# Altium footprint library Connector_Phoenix_MC.PcbLib: 180 footprints (part 9 of 12)
Each footprint in its own frame and in the unit in brackets; x right, y up, seen from the top. Pads: shape width x height; smd on the part's side, far side on the other; paste and mask are expansions set on the pad; w line width, h text height; cw(c..) or ccw(c..) is an arc to the next point about the centre after c.
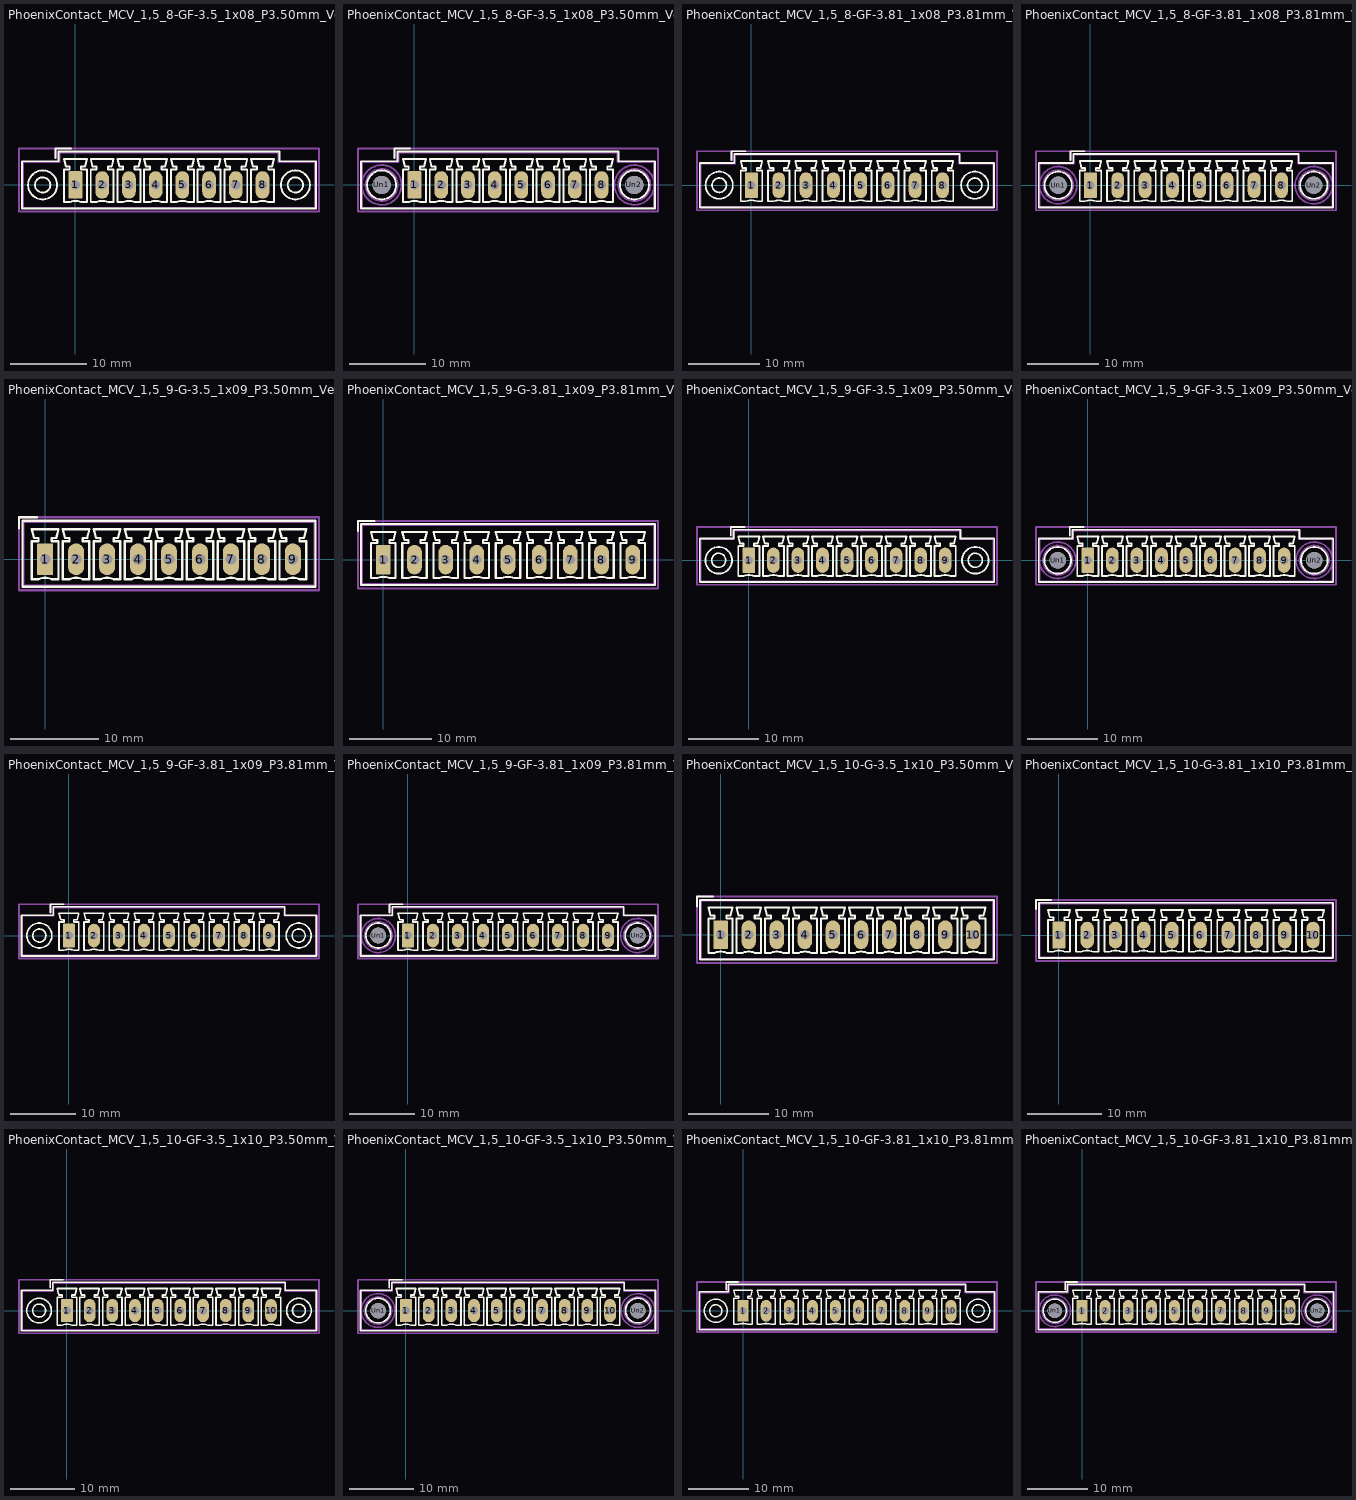
[diagram p8: the footprints below, top view; thin cyan lines are the x and y axes]

## PhoenixContact_MCV_1,5_8-GF-3.5_1x08_P3.50mm_Vertical_ThreadedFlange [mm]
pads (8):
  rrect14% 1.8x3.6 hole 1.2: 1(0,0)
  rrect100% 1.8x3.6 hole 1.2: 2(3.5,0) 3(7,0) 4(10.5,0) 5(14,0) 6(17.5,0) 7(21,0) 8(24.5,0)
F.SilkS:
  circle w0.254: c28.8,0 r1.9
  circle w0.254: c28.8,0 r1
  circle w0.254: c-4.3,0 r1.9
  circle w0.254: c-4.3,0 r1
  lines w0.254: -2.6,3.5 -2.6,4.75 -0.6,4.75 ; 0.75,-2.25 ccw(c0,-3.95) -0.75,-2.25 -1.5,-2.25 -1.5,2.05 -0.75,2.05 -0.75,2.4 -1.25,2.4 -1.5,3.4 1.5,3.4 1.25,2.4 0.75,2.4 0.75,2.05 1.5,2.05 1.5,-2.25 0.75,-2.25 ; -7.01,-3.11 31.51,-3.11 31.51,3.11 26.71,3.11 26.71,4.36 -2.21,4.36 -2.21,3.11 -7.01,3.11 -7.01,-3.11 ; 2,-2.25 2.75,-2.25 cw(c3.5,-3.95) 4.25,-2.25 5,-2.25 5,2.05 4.25,2.05 4.25,2.4 4.75,2.4 5,3.4 2,3.4 2.25,2.4 2.75,2.4 2.75,2.05 2,2.05 2,-2.25 ; 5.5,-2.25 6.25,-2.25 cw(c7,-3.95) 7.75,-2.25 8.5,-2.25 8.5,2.05 7.75,2.05 7.75,2.4 8.25,2.4 8.5,3.4 5.5,3.4 5.75,2.4 6.25,2.4 6.25,2.05 5.5,2.05 5.5,-2.25 ; 9,-2.25 9.75,-2.25 cw(c10.5,-3.95) 11.25,-2.25 12,-2.25 12,2.05 11.25,2.05 11.25,2.4 11.75,2.4 12,3.4 9,3.4 9.25,2.4 9.75,2.4 9.75,2.05 9,2.05 9,-2.25 ; 12.5,-2.25 13.25,-2.25 cw(c14,-3.95) 14.75,-2.25 15.5,-2.25 15.5,2.05 14.75,2.05 14.75,2.4 15.25,2.4 15.5,3.4 12.5,3.4 12.75,2.4 13.25,2.4 13.25,2.05 12.5,2.05 12.5,-2.25 ; 16,-2.25 16.75,-2.25 cw(c17.5,-3.95) 18.25,-2.25 19,-2.25 19,2.05 18.25,2.05 18.25,2.4 18.75,2.4 19,3.4 16,3.4 16.25,2.4 16.75,2.4 16.75,2.05 16,2.05 16,-2.25 ; 19.5,-2.25 20.25,-2.25 cw(c21,-3.95) 21.75,-2.25 22.5,-2.25 22.5,2.05 21.75,2.05 21.75,2.4 22.25,2.4 22.5,3.4 19.5,3.4 19.75,2.4 20.25,2.4 20.25,2.05 19.5,2.05 19.5,-2.25 ; 23,-2.25 23.75,-2.25 cw(c24.5,-3.95) 25.25,-2.25 26,-2.25 26,2.05 25.25,2.05 25.25,2.4 25.75,2.4 26,3.4 23,3.4 23.25,2.4 23.75,2.4 23.75,2.05 23,2.05 23,-2.25
Top Assembly:
  lines w0.254: -2.6,3.5 -2.6,4.75 -0.6,4.75 ; -6.9,-3 31.4,-3 31.4,3 26.6,3 26.6,4.25 -2.1,4.25 -2.1,3 -6.9,3 -6.9,-3
  text "'.Designator'" at 8.203,2.71 h1
Top Courtyard:
  lines w0.254: -7.4,-3.5 31.9,-3.5 31.9,4.75 -7.4,4.75 -7.4,-3.5
Top Designator:
  text ".Designator" at 4.632,0.117 h1.52

## PhoenixContact_MCV_1,5_8-GF-3.5_1x08_P3.50mm_Vertical_ThreadedFlange_MountHole [mm]
pads (10):
  rrect14% 1.8x3.6 hole 1.2: 1(0,0)
  rrect100% 1.8x3.6 hole 1.2: 2(3.5,0) 3(7,0) 4(10.5,0) 5(14,0) 6(17.5,0) 7(21,0) 8(24.5,0)
  round 2.4 hole 2.4: Un1(-4.3,0) Un2(28.8,0)
F.SilkS:
  circle w0.254: c28.8,0 r1.9
  circle w0.254: c-4.3,0 r1.9
  lines w0.254: -2.6,3.5 -2.6,4.75 -0.6,4.75 ; 0.75,-2.25 ccw(c0,-3.95) -0.75,-2.25 -1.5,-2.25 -1.5,2.05 -0.75,2.05 -0.75,2.4 -1.25,2.4 -1.5,3.4 1.5,3.4 1.25,2.4 0.75,2.4 0.75,2.05 1.5,2.05 1.5,-2.25 0.75,-2.25 ; -7.01,-3.11 31.51,-3.11 31.51,3.11 26.71,3.11 26.71,4.36 -2.21,4.36 -2.21,3.11 -7.01,3.11 -7.01,-3.11 ; 2,-2.25 2.75,-2.25 cw(c3.5,-3.95) 4.25,-2.25 5,-2.25 5,2.05 4.25,2.05 4.25,2.4 4.75,2.4 5,3.4 2,3.4 2.25,2.4 2.75,2.4 2.75,2.05 2,2.05 2,-2.25 ; 5.5,-2.25 6.25,-2.25 cw(c7,-3.95) 7.75,-2.25 8.5,-2.25 8.5,2.05 7.75,2.05 7.75,2.4 8.25,2.4 8.5,3.4 5.5,3.4 5.75,2.4 6.25,2.4 6.25,2.05 5.5,2.05 5.5,-2.25 ; 9,-2.25 9.75,-2.25 cw(c10.5,-3.95) 11.25,-2.25 12,-2.25 12,2.05 11.25,2.05 11.25,2.4 11.75,2.4 12,3.4 9,3.4 9.25,2.4 9.75,2.4 9.75,2.05 9,2.05 9,-2.25 ; 12.5,-2.25 13.25,-2.25 cw(c14,-3.95) 14.75,-2.25 15.5,-2.25 15.5,2.05 14.75,2.05 14.75,2.4 15.25,2.4 15.5,3.4 12.5,3.4 12.75,2.4 13.25,2.4 13.25,2.05 12.5,2.05 12.5,-2.25 ; 16,-2.25 16.75,-2.25 cw(c17.5,-3.95) 18.25,-2.25 19,-2.25 19,2.05 18.25,2.05 18.25,2.4 18.75,2.4 19,3.4 16,3.4 16.25,2.4 16.75,2.4 16.75,2.05 16,2.05 16,-2.25 ; 19.5,-2.25 20.25,-2.25 cw(c21,-3.95) 21.75,-2.25 22.5,-2.25 22.5,2.05 21.75,2.05 21.75,2.4 22.25,2.4 22.5,3.4 19.5,3.4 19.75,2.4 20.25,2.4 20.25,2.05 19.5,2.05 19.5,-2.25 ; 23,-2.25 23.75,-2.25 cw(c24.5,-3.95) 25.25,-2.25 26,-2.25 26,2.05 25.25,2.05 25.25,2.4 25.75,2.4 26,3.4 23,3.4 23.25,2.4 23.75,2.4 23.75,2.05 23,2.05 23,-2.25
B.SilkS:
  circle w0.254: c28.8,0 r2.21
  circle w0.254: c-4.3,0 r2.21
Top Assembly:
  lines w0.254: -2.6,3.5 -2.6,4.75 -0.6,4.75 ; -6.9,-3 31.4,-3 31.4,3 26.6,3 26.6,4.25 -2.1,4.25 -2.1,3 -6.9,3 -6.9,-3
  text "'.Designator'" at 8.203,2.71 h1
Bottom Assembly:
  circle w0.254: c28.8,0 r2.1
  circle w0.254: c-4.3,0 r2.1
Top Courtyard:
  lines w0.254: -7.4,-3.5 31.9,-3.5 31.9,4.75 -7.4,4.75 -7.4,-3.5
Bottom Courtyard:
  circle w0.254: c28.8,0 r2.6
  circle w0.254: c-4.3,0 r2.6
Top Designator:
  text ".Designator" at 4.632,0.117 h1.52

## PhoenixContact_MCV_1,5_8-GF-3.81_1x08_P3.81mm_Vertical_ThreadedFlange [mm]
pads (8):
  rrect14% 1.8x3.6 hole 1.2: 1(0,0)
  rrect100% 1.8x3.6 hole 1.2: 2(3.81,0) 3(7.62,0) 4(11.43,0) 5(15.24,0) 6(19.05,0) 7(22.86,0) 8(26.67,0)
F.SilkS:
  circle w0.254: c31.17,0 r1.9
  circle w0.254: c31.17,0 r1
  circle w0.254: c-4.5,0 r1.9
  circle w0.254: c-4.5,0 r1
  lines w0.254: -2.8,3.5 -2.8,4.75 -0.8,4.75 ; 0.75,-2.25 ccw(c0,-3.95) -0.75,-2.25 -1.5,-2.25 -1.5,2.05 -0.75,2.05 -0.75,2.4 -1.25,2.4 -1.5,3.4 1.5,3.4 1.25,2.4 0.75,2.4 0.75,2.05 1.5,2.05 1.5,-2.25 0.75,-2.25 ; 4.56,-2.25 ccw(c3.81,-3.95) 3.06,-2.25 2.31,-2.25 2.31,2.05 3.06,2.05 3.06,2.4 2.56,2.4 2.31,3.4 5.31,3.4 5.06,2.4 4.56,2.4 4.56,2.05 5.31,2.05 5.31,-2.25 4.56,-2.25 ; 8.37,-2.25 ccw(c7.62,-3.95) 6.87,-2.25 6.12,-2.25 6.12,2.05 6.87,2.05 6.87,2.4 6.37,2.4 6.12,3.4 9.12,3.4 8.87,2.4 8.37,2.4 8.37,2.05 9.12,2.05 9.12,-2.25 8.37,-2.25 ; 12.18,-2.25 ccw(c11.43,-3.95) 10.68,-2.25 9.93,-2.25 9.93,2.05 10.68,2.05 10.68,2.4 10.18,2.4 9.93,3.4 12.93,3.4 12.68,2.4 12.18,2.4 12.18,2.05 12.93,2.05 12.93,-2.25 12.18,-2.25 ; 15.99,-2.25 ccw(c15.24,-3.95) 14.49,-2.25 13.74,-2.25 13.74,2.05 14.49,2.05 14.49,2.4 13.99,2.4 13.74,3.4 16.74,3.4 16.49,2.4 15.99,2.4 15.99,2.05 16.74,2.05 16.74,-2.25 15.99,-2.25 ; 19.8,-2.25 ccw(c19.05,-3.95) 18.3,-2.25 17.55,-2.25 17.55,2.05 18.3,2.05 18.3,2.4 17.8,2.4 17.55,3.4 20.55,3.4 20.3,2.4 19.8,2.4 19.8,2.05 20.55,2.05 20.55,-2.25 19.8,-2.25 ; 23.61,-2.25 ccw(c22.86,-3.95) 22.11,-2.25 21.36,-2.25 21.36,2.05 22.11,2.05 22.11,2.4 21.61,2.4 21.36,3.4 24.36,3.4 24.11,2.4 23.61,2.4 23.61,2.05 24.36,2.05 24.36,-2.25 23.61,-2.25 ; 27.42,-2.25 ccw(c26.67,-3.95) 25.92,-2.25 25.17,-2.25 25.17,2.05 25.92,2.05 25.92,2.4 25.42,2.4 25.17,3.4 28.17,3.4 27.92,2.4 27.42,2.4 27.42,2.05 28.17,2.05 28.17,-2.25 27.42,-2.25 ; -7.21,-3.11 33.88,-3.11 33.88,3.11 29.08,3.11 29.08,4.36 -2.41,4.36 -2.41,3.11 -7.21,3.11 -7.21,-3.11
Top Assembly:
  lines w0.254: -2.8,3.5 -2.8,4.75 -0.8,4.75 ; -7.1,-3 33.77,-3 33.77,3 28.97,3 28.97,4.25 -2.3,4.25 -2.3,3 -7.1,3 -7.1,-3
  text "'.Designator'" at 9.293,2.71 h1
Top Courtyard:
  lines w0.254: -7.6,-3.5 34.28,-3.5 34.28,4.75 -7.6,4.75 -7.6,-3.5
Top Designator:
  text ".Designator" at 5.722,0.117 h1.52

## PhoenixContact_MCV_1,5_8-GF-3.81_1x08_P3.81mm_Vertical_ThreadedFlange_MountHole [mm]
pads (10):
  rrect14% 1.8x3.6 hole 1.2: 1(0,0)
  rrect100% 1.8x3.6 hole 1.2: 2(3.81,0) 3(7.62,0) 4(11.43,0) 5(15.24,0) 6(19.05,0) 7(22.86,0) 8(26.67,0)
  round 2.4 hole 2.4: Un1(-4.5,0) Un2(31.17,0)
F.SilkS:
  circle w0.254: c31.17,0 r1.9
  circle w0.254: c-4.5,0 r1.9
  lines w0.254: -2.8,3.5 -2.8,4.75 -0.8,4.75 ; 0.75,-2.25 ccw(c0,-3.95) -0.75,-2.25 -1.5,-2.25 -1.5,2.05 -0.75,2.05 -0.75,2.4 -1.25,2.4 -1.5,3.4 1.5,3.4 1.25,2.4 0.75,2.4 0.75,2.05 1.5,2.05 1.5,-2.25 0.75,-2.25 ; 4.56,-2.25 ccw(c3.81,-3.95) 3.06,-2.25 2.31,-2.25 2.31,2.05 3.06,2.05 3.06,2.4 2.56,2.4 2.31,3.4 5.31,3.4 5.06,2.4 4.56,2.4 4.56,2.05 5.31,2.05 5.31,-2.25 4.56,-2.25 ; 8.37,-2.25 ccw(c7.62,-3.95) 6.87,-2.25 6.12,-2.25 6.12,2.05 6.87,2.05 6.87,2.4 6.37,2.4 6.12,3.4 9.12,3.4 8.87,2.4 8.37,2.4 8.37,2.05 9.12,2.05 9.12,-2.25 8.37,-2.25 ; 12.18,-2.25 ccw(c11.43,-3.95) 10.68,-2.25 9.93,-2.25 9.93,2.05 10.68,2.05 10.68,2.4 10.18,2.4 9.93,3.4 12.93,3.4 12.68,2.4 12.18,2.4 12.18,2.05 12.93,2.05 12.93,-2.25 12.18,-2.25 ; 15.99,-2.25 ccw(c15.24,-3.95) 14.49,-2.25 13.74,-2.25 13.74,2.05 14.49,2.05 14.49,2.4 13.99,2.4 13.74,3.4 16.74,3.4 16.49,2.4 15.99,2.4 15.99,2.05 16.74,2.05 16.74,-2.25 15.99,-2.25 ; 19.8,-2.25 ccw(c19.05,-3.95) 18.3,-2.25 17.55,-2.25 17.55,2.05 18.3,2.05 18.3,2.4 17.8,2.4 17.55,3.4 20.55,3.4 20.3,2.4 19.8,2.4 19.8,2.05 20.55,2.05 20.55,-2.25 19.8,-2.25 ; 23.61,-2.25 ccw(c22.86,-3.95) 22.11,-2.25 21.36,-2.25 21.36,2.05 22.11,2.05 22.11,2.4 21.61,2.4 21.36,3.4 24.36,3.4 24.11,2.4 23.61,2.4 23.61,2.05 24.36,2.05 24.36,-2.25 23.61,-2.25 ; 27.42,-2.25 ccw(c26.67,-3.95) 25.92,-2.25 25.17,-2.25 25.17,2.05 25.92,2.05 25.92,2.4 25.42,2.4 25.17,3.4 28.17,3.4 27.92,2.4 27.42,2.4 27.42,2.05 28.17,2.05 28.17,-2.25 27.42,-2.25 ; -7.21,-3.11 33.88,-3.11 33.88,3.11 29.08,3.11 29.08,4.36 -2.41,4.36 -2.41,3.11 -7.21,3.11 -7.21,-3.11
B.SilkS:
  circle w0.254: c31.17,0 r2.21
  circle w0.254: c-4.5,0 r2.21
Top Assembly:
  lines w0.254: -2.8,3.5 -2.8,4.75 -0.8,4.75 ; -7.1,-3 33.77,-3 33.77,3 28.97,3 28.97,4.25 -2.3,4.25 -2.3,3 -7.1,3 -7.1,-3
  text "'.Designator'" at 9.293,2.71 h1
Bottom Assembly:
  circle w0.254: c31.17,0 r2.1
  circle w0.254: c-4.5,0 r2.1
Top Courtyard:
  lines w0.254: -7.6,-3.5 34.28,-3.5 34.28,4.75 -7.6,4.75 -7.6,-3.5
Bottom Courtyard:
  circle w0.254: c31.17,0 r2.6
  circle w0.254: c-4.5,0 r2.6
Top Designator:
  text ".Designator" at 5.722,0.117 h1.52

## PhoenixContact_MCV_1,5_9-G-3.5_1x09_P3.50mm_Vertical [mm]
pads (9):
  rrect14% 1.8x3.6 hole 1.2: 1(0,0)
  rrect100% 1.8x3.6 hole 1.2: 2(3.5,0) 3(7,0) 4(10.5,0) 5(14,0) 6(17.5,0) 7(21,0) 8(24.5,0) 9(28,0)
F.SilkS:
  lines w0.254: -2.95,3.5 -2.95,4.75 -0.95,4.75 ; 0.75,-2.25 ccw(c0,-3.95) -0.75,-2.25 -1.5,-2.25 -1.5,2.05 -0.75,2.05 -0.75,2.4 -1.25,2.4 -1.5,3.4 1.5,3.4 1.25,2.4 0.75,2.4 0.75,2.05 1.5,2.05 1.5,-2.25 0.75,-2.25 ; -2.56,-3.11 30.56,-3.11 30.56,4.36 -2.56,4.36 -2.56,-3.11 ; 2,-2.25 2.75,-2.25 cw(c3.5,-3.95) 4.25,-2.25 5,-2.25 5,2.05 4.25,2.05 4.25,2.4 4.75,2.4 5,3.4 2,3.4 2.25,2.4 2.75,2.4 2.75,2.05 2,2.05 2,-2.25 ; 5.5,-2.25 6.25,-2.25 cw(c7,-3.95) 7.75,-2.25 8.5,-2.25 8.5,2.05 7.75,2.05 7.75,2.4 8.25,2.4 8.5,3.4 5.5,3.4 5.75,2.4 6.25,2.4 6.25,2.05 5.5,2.05 5.5,-2.25 ; 9,-2.25 9.75,-2.25 cw(c10.5,-3.95) 11.25,-2.25 12,-2.25 12,2.05 11.25,2.05 11.25,2.4 11.75,2.4 12,3.4 9,3.4 9.25,2.4 9.75,2.4 9.75,2.05 9,2.05 9,-2.25 ; 12.5,-2.25 13.25,-2.25 cw(c14,-3.95) 14.75,-2.25 15.5,-2.25 15.5,2.05 14.75,2.05 14.75,2.4 15.25,2.4 15.5,3.4 12.5,3.4 12.75,2.4 13.25,2.4 13.25,2.05 12.5,2.05 12.5,-2.25 ; 16,-2.25 16.75,-2.25 cw(c17.5,-3.95) 18.25,-2.25 19,-2.25 19,2.05 18.25,2.05 18.25,2.4 18.75,2.4 19,3.4 16,3.4 16.25,2.4 16.75,2.4 16.75,2.05 16,2.05 16,-2.25 ; 19.5,-2.25 20.25,-2.25 cw(c21,-3.95) 21.75,-2.25 22.5,-2.25 22.5,2.05 21.75,2.05 21.75,2.4 22.25,2.4 22.5,3.4 19.5,3.4 19.75,2.4 20.25,2.4 20.25,2.05 19.5,2.05 19.5,-2.25 ; 23,-2.25 23.75,-2.25 cw(c24.5,-3.95) 25.25,-2.25 26,-2.25 26,2.05 25.25,2.05 25.25,2.4 25.75,2.4 26,3.4 23,3.4 23.25,2.4 23.75,2.4 23.75,2.05 23,2.05 23,-2.25 ; 26.5,-2.25 27.25,-2.25 cw(c28,-3.95) 28.75,-2.25 29.5,-2.25 29.5,2.05 28.75,2.05 28.75,2.4 29.25,2.4 29.5,3.4 26.5,3.4 26.75,2.4 27.25,2.4 27.25,2.05 26.5,2.05 26.5,-2.25
Top Assembly:
  lines w0.254: -2.95,3.5 -2.95,4.75 -0.95,4.75 ; -2.45,-3 30.45,-3 30.45,4.25 -2.45,4.25 -2.45,-3
  text "'.Designator'" at 9.953,2.71 h1
Top Courtyard:
  lines w0.254: -2.95,-3.5 30.95,-3.5 30.95,4.75 -2.95,4.75 -2.95,-3.5
Top Designator:
  text ".Designator" at 6.382,0.117 h1.52

## PhoenixContact_MCV_1,5_9-G-3.81_1x09_P3.81mm_Vertical [mm]
pads (9):
  rrect14% 1.8x3.6 hole 1.2: 1(0,0)
  rrect100% 1.8x3.6 hole 1.2: 2(3.81,0) 3(7.62,0) 4(11.43,0) 5(15.24,0) 6(19.05,0) 7(22.86,0) 8(26.67,0) 9(30.48,0)
F.SilkS:
  lines w0.254: -3.1,3.5 -3.1,4.75 -1.1,4.75 ; 0.75,-2.25 ccw(c0,-3.95) -0.75,-2.25 -1.5,-2.25 -1.5,2.05 -0.75,2.05 -0.75,2.4 -1.25,2.4 -1.5,3.4 1.5,3.4 1.25,2.4 0.75,2.4 0.75,2.05 1.5,2.05 1.5,-2.25 0.75,-2.25 ; 4.56,-2.25 ccw(c3.81,-3.95) 3.06,-2.25 2.31,-2.25 2.31,2.05 3.06,2.05 3.06,2.4 2.56,2.4 2.31,3.4 5.31,3.4 5.06,2.4 4.56,2.4 4.56,2.05 5.31,2.05 5.31,-2.25 4.56,-2.25 ; 8.37,-2.25 ccw(c7.62,-3.95) 6.87,-2.25 6.12,-2.25 6.12,2.05 6.87,2.05 6.87,2.4 6.37,2.4 6.12,3.4 9.12,3.4 8.87,2.4 8.37,2.4 8.37,2.05 9.12,2.05 9.12,-2.25 8.37,-2.25 ; 12.18,-2.25 ccw(c11.43,-3.95) 10.68,-2.25 9.93,-2.25 9.93,2.05 10.68,2.05 10.68,2.4 10.18,2.4 9.93,3.4 12.93,3.4 12.68,2.4 12.18,2.4 12.18,2.05 12.93,2.05 12.93,-2.25 12.18,-2.25 ; 15.99,-2.25 ccw(c15.24,-3.95) 14.49,-2.25 13.74,-2.25 13.74,2.05 14.49,2.05 14.49,2.4 13.99,2.4 13.74,3.4 16.74,3.4 16.49,2.4 15.99,2.4 15.99,2.05 16.74,2.05 16.74,-2.25 15.99,-2.25 ; 19.8,-2.25 ccw(c19.05,-3.95) 18.3,-2.25 17.55,-2.25 17.55,2.05 18.3,2.05 18.3,2.4 17.8,2.4 17.55,3.4 20.55,3.4 20.3,2.4 19.8,2.4 19.8,2.05 20.55,2.05 20.55,-2.25 19.8,-2.25 ; 23.61,-2.25 ccw(c22.86,-3.95) 22.11,-2.25 21.36,-2.25 21.36,2.05 22.11,2.05 22.11,2.4 21.61,2.4 21.36,3.4 24.36,3.4 24.11,2.4 23.61,2.4 23.61,2.05 24.36,2.05 24.36,-2.25 23.61,-2.25 ; 27.42,-2.25 ccw(c26.67,-3.95) 25.92,-2.25 25.17,-2.25 25.17,2.05 25.92,2.05 25.92,2.4 25.42,2.4 25.17,3.4 28.17,3.4 27.92,2.4 27.42,2.4 27.42,2.05 28.17,2.05 28.17,-2.25 27.42,-2.25 ; 31.23,-2.25 ccw(c30.48,-3.95) 29.73,-2.25 28.98,-2.25 28.98,2.05 29.73,2.05 29.73,2.4 29.23,2.4 28.98,3.4 31.98,3.4 31.73,2.4 31.23,2.4 31.23,2.05 31.98,2.05 31.98,-2.25 31.23,-2.25 ; -2.71,-3.11 33.19,-3.11 33.19,4.36 -2.71,4.36 -2.71,-3.11
Top Assembly:
  lines w0.254: -3.1,3.5 -3.1,4.75 -1.1,4.75 ; -2.6,-3 33.08,-3 33.08,4.25 -2.6,4.25 -2.6,-3
  text "'.Designator'" at 11.193,2.71 h1
Top Courtyard:
  lines w0.254: -3.1,-3.5 33.58,-3.5 33.58,4.75 -3.1,4.75 -3.1,-3.5
Top Designator:
  text ".Designator" at 7.622,0.117 h1.52

## PhoenixContact_MCV_1,5_9-GF-3.5_1x09_P3.50mm_Vertical_ThreadedFlange [mm]
pads (9):
  rrect14% 1.8x3.6 hole 1.2: 1(0,0)
  rrect100% 1.8x3.6 hole 1.2: 2(3.5,0) 3(7,0) 4(10.5,0) 5(14,0) 6(17.5,0) 7(21,0) 8(24.5,0) 9(28,0)
F.SilkS:
  circle w0.254: c32.3,0 r1.9
  circle w0.254: c32.3,0 r1
  circle w0.254: c-4.3,0 r1.9
  circle w0.254: c-4.3,0 r1
  lines w0.254: -2.6,3.5 -2.6,4.75 -0.6,4.75 ; 0.75,-2.25 ccw(c0,-3.95) -0.75,-2.25 -1.5,-2.25 -1.5,2.05 -0.75,2.05 -0.75,2.4 -1.25,2.4 -1.5,3.4 1.5,3.4 1.25,2.4 0.75,2.4 0.75,2.05 1.5,2.05 1.5,-2.25 0.75,-2.25 ; -7.01,-3.11 35.01,-3.11 35.01,3.11 30.21,3.11 30.21,4.36 -2.21,4.36 -2.21,3.11 -7.01,3.11 -7.01,-3.11 ; 2,-2.25 2.75,-2.25 cw(c3.5,-3.95) 4.25,-2.25 5,-2.25 5,2.05 4.25,2.05 4.25,2.4 4.75,2.4 5,3.4 2,3.4 2.25,2.4 2.75,2.4 2.75,2.05 2,2.05 2,-2.25 ; 5.5,-2.25 6.25,-2.25 cw(c7,-3.95) 7.75,-2.25 8.5,-2.25 8.5,2.05 7.75,2.05 7.75,2.4 8.25,2.4 8.5,3.4 5.5,3.4 5.75,2.4 6.25,2.4 6.25,2.05 5.5,2.05 5.5,-2.25 ; 9,-2.25 9.75,-2.25 cw(c10.5,-3.95) 11.25,-2.25 12,-2.25 12,2.05 11.25,2.05 11.25,2.4 11.75,2.4 12,3.4 9,3.4 9.25,2.4 9.75,2.4 9.75,2.05 9,2.05 9,-2.25 ; 12.5,-2.25 13.25,-2.25 cw(c14,-3.95) 14.75,-2.25 15.5,-2.25 15.5,2.05 14.75,2.05 14.75,2.4 15.25,2.4 15.5,3.4 12.5,3.4 12.75,2.4 13.25,2.4 13.25,2.05 12.5,2.05 12.5,-2.25 ; 16,-2.25 16.75,-2.25 cw(c17.5,-3.95) 18.25,-2.25 19,-2.25 19,2.05 18.25,2.05 18.25,2.4 18.75,2.4 19,3.4 16,3.4 16.25,2.4 16.75,2.4 16.75,2.05 16,2.05 16,-2.25 ; 19.5,-2.25 20.25,-2.25 cw(c21,-3.95) 21.75,-2.25 22.5,-2.25 22.5,2.05 21.75,2.05 21.75,2.4 22.25,2.4 22.5,3.4 19.5,3.4 19.75,2.4 20.25,2.4 20.25,2.05 19.5,2.05 19.5,-2.25 ; 23,-2.25 23.75,-2.25 cw(c24.5,-3.95) 25.25,-2.25 26,-2.25 26,2.05 25.25,2.05 25.25,2.4 25.75,2.4 26,3.4 23,3.4 23.25,2.4 23.75,2.4 23.75,2.05 23,2.05 23,-2.25 ; 26.5,-2.25 27.25,-2.25 cw(c28,-3.95) 28.75,-2.25 29.5,-2.25 29.5,2.05 28.75,2.05 28.75,2.4 29.25,2.4 29.5,3.4 26.5,3.4 26.75,2.4 27.25,2.4 27.25,2.05 26.5,2.05 26.5,-2.25
Top Assembly:
  lines w0.254: -2.6,3.5 -2.6,4.75 -0.6,4.75 ; -6.9,-3 34.9,-3 34.9,3 30.1,3 30.1,4.25 -2.1,4.25 -2.1,3 -6.9,3 -6.9,-3
  text "'.Designator'" at 9.953,2.71 h1
Top Courtyard:
  lines w0.254: -7.4,-3.5 35.4,-3.5 35.4,4.75 -7.4,4.75 -7.4,-3.5
Top Designator:
  text ".Designator" at 6.382,0.117 h1.52

## PhoenixContact_MCV_1,5_9-GF-3.5_1x09_P3.50mm_Vertical_ThreadedFlange_MountHole [mm]
pads (11):
  rrect14% 1.8x3.6 hole 1.2: 1(0,0)
  rrect100% 1.8x3.6 hole 1.2: 2(3.5,0) 3(7,0) 4(10.5,0) 5(14,0) 6(17.5,0) 7(21,0) 8(24.5,0) 9(28,0)
  round 2.4 hole 2.4: Un1(-4.3,0) Un2(32.3,0)
F.SilkS:
  circle w0.254: c32.3,0 r1.9
  circle w0.254: c-4.3,0 r1.9
  lines w0.254: -2.6,3.5 -2.6,4.75 -0.6,4.75 ; 0.75,-2.25 ccw(c0,-3.95) -0.75,-2.25 -1.5,-2.25 -1.5,2.05 -0.75,2.05 -0.75,2.4 -1.25,2.4 -1.5,3.4 1.5,3.4 1.25,2.4 0.75,2.4 0.75,2.05 1.5,2.05 1.5,-2.25 0.75,-2.25 ; -7.01,-3.11 35.01,-3.11 35.01,3.11 30.21,3.11 30.21,4.36 -2.21,4.36 -2.21,3.11 -7.01,3.11 -7.01,-3.11 ; 2,-2.25 2.75,-2.25 cw(c3.5,-3.95) 4.25,-2.25 5,-2.25 5,2.05 4.25,2.05 4.25,2.4 4.75,2.4 5,3.4 2,3.4 2.25,2.4 2.75,2.4 2.75,2.05 2,2.05 2,-2.25 ; 5.5,-2.25 6.25,-2.25 cw(c7,-3.95) 7.75,-2.25 8.5,-2.25 8.5,2.05 7.75,2.05 7.75,2.4 8.25,2.4 8.5,3.4 5.5,3.4 5.75,2.4 6.25,2.4 6.25,2.05 5.5,2.05 5.5,-2.25 ; 9,-2.25 9.75,-2.25 cw(c10.5,-3.95) 11.25,-2.25 12,-2.25 12,2.05 11.25,2.05 11.25,2.4 11.75,2.4 12,3.4 9,3.4 9.25,2.4 9.75,2.4 9.75,2.05 9,2.05 9,-2.25 ; 12.5,-2.25 13.25,-2.25 cw(c14,-3.95) 14.75,-2.25 15.5,-2.25 15.5,2.05 14.75,2.05 14.75,2.4 15.25,2.4 15.5,3.4 12.5,3.4 12.75,2.4 13.25,2.4 13.25,2.05 12.5,2.05 12.5,-2.25 ; 16,-2.25 16.75,-2.25 cw(c17.5,-3.95) 18.25,-2.25 19,-2.25 19,2.05 18.25,2.05 18.25,2.4 18.75,2.4 19,3.4 16,3.4 16.25,2.4 16.75,2.4 16.75,2.05 16,2.05 16,-2.25 ; 19.5,-2.25 20.25,-2.25 cw(c21,-3.95) 21.75,-2.25 22.5,-2.25 22.5,2.05 21.75,2.05 21.75,2.4 22.25,2.4 22.5,3.4 19.5,3.4 19.75,2.4 20.25,2.4 20.25,2.05 19.5,2.05 19.5,-2.25 ; 23,-2.25 23.75,-2.25 cw(c24.5,-3.95) 25.25,-2.25 26,-2.25 26,2.05 25.25,2.05 25.25,2.4 25.75,2.4 26,3.4 23,3.4 23.25,2.4 23.75,2.4 23.75,2.05 23,2.05 23,-2.25 ; 26.5,-2.25 27.25,-2.25 cw(c28,-3.95) 28.75,-2.25 29.5,-2.25 29.5,2.05 28.75,2.05 28.75,2.4 29.25,2.4 29.5,3.4 26.5,3.4 26.75,2.4 27.25,2.4 27.25,2.05 26.5,2.05 26.5,-2.25
B.SilkS:
  circle w0.254: c32.3,0 r2.21
  circle w0.254: c-4.3,0 r2.21
Top Assembly:
  lines w0.254: -2.6,3.5 -2.6,4.75 -0.6,4.75 ; -6.9,-3 34.9,-3 34.9,3 30.1,3 30.1,4.25 -2.1,4.25 -2.1,3 -6.9,3 -6.9,-3
  text "'.Designator'" at 9.953,2.71 h1
Bottom Assembly:
  circle w0.254: c32.3,0 r2.1
  circle w0.254: c-4.3,0 r2.1
Top Courtyard:
  lines w0.254: -7.4,-3.5 35.4,-3.5 35.4,4.75 -7.4,4.75 -7.4,-3.5
Bottom Courtyard:
  circle w0.254: c32.3,0 r2.6
  circle w0.254: c-4.3,0 r2.6
Top Designator:
  text ".Designator" at 6.382,0.117 h1.52

## PhoenixContact_MCV_1,5_9-GF-3.81_1x09_P3.81mm_Vertical_ThreadedFlange [mm]
pads (9):
  rrect14% 1.8x3.6 hole 1.2: 1(0,0)
  rrect100% 1.8x3.6 hole 1.2: 2(3.81,0) 3(7.62,0) 4(11.43,0) 5(15.24,0) 6(19.05,0) 7(22.86,0) 8(26.67,0) 9(30.48,0)
F.SilkS:
  circle w0.254: c34.98,0 r1.9
  circle w0.254: c34.98,0 r1
  circle w0.254: c-4.5,0 r1.9
  circle w0.254: c-4.5,0 r1
  lines w0.254: -2.8,3.5 -2.8,4.75 -0.8,4.75 ; 0.75,-2.25 ccw(c0,-3.95) -0.75,-2.25 -1.5,-2.25 -1.5,2.05 -0.75,2.05 -0.75,2.4 -1.25,2.4 -1.5,3.4 1.5,3.4 1.25,2.4 0.75,2.4 0.75,2.05 1.5,2.05 1.5,-2.25 0.75,-2.25 ; 4.56,-2.25 ccw(c3.81,-3.95) 3.06,-2.25 2.31,-2.25 2.31,2.05 3.06,2.05 3.06,2.4 2.56,2.4 2.31,3.4 5.31,3.4 5.06,2.4 4.56,2.4 4.56,2.05 5.31,2.05 5.31,-2.25 4.56,-2.25 ; 8.37,-2.25 ccw(c7.62,-3.95) 6.87,-2.25 6.12,-2.25 6.12,2.05 6.87,2.05 6.87,2.4 6.37,2.4 6.12,3.4 9.12,3.4 8.87,2.4 8.37,2.4 8.37,2.05 9.12,2.05 9.12,-2.25 8.37,-2.25 ; 12.18,-2.25 ccw(c11.43,-3.95) 10.68,-2.25 9.93,-2.25 9.93,2.05 10.68,2.05 10.68,2.4 10.18,2.4 9.93,3.4 12.93,3.4 12.68,2.4 12.18,2.4 12.18,2.05 12.93,2.05 12.93,-2.25 12.18,-2.25 ; 15.99,-2.25 ccw(c15.24,-3.95) 14.49,-2.25 13.74,-2.25 13.74,2.05 14.49,2.05 14.49,2.4 13.99,2.4 13.74,3.4 16.74,3.4 16.49,2.4 15.99,2.4 15.99,2.05 16.74,2.05 16.74,-2.25 15.99,-2.25 ; 19.8,-2.25 ccw(c19.05,-3.95) 18.3,-2.25 17.55,-2.25 17.55,2.05 18.3,2.05 18.3,2.4 17.8,2.4 17.55,3.4 20.55,3.4 20.3,2.4 19.8,2.4 19.8,2.05 20.55,2.05 20.55,-2.25 19.8,-2.25 ; 23.61,-2.25 ccw(c22.86,-3.95) 22.11,-2.25 21.36,-2.25 21.36,2.05 22.11,2.05 22.11,2.4 21.61,2.4 21.36,3.4 24.36,3.4 24.11,2.4 23.61,2.4 23.61,2.05 24.36,2.05 24.36,-2.25 23.61,-2.25 ; 27.42,-2.25 ccw(c26.67,-3.95) 25.92,-2.25 25.17,-2.25 25.17,2.05 25.92,2.05 25.92,2.4 25.42,2.4 25.17,3.4 28.17,3.4 27.92,2.4 27.42,2.4 27.42,2.05 28.17,2.05 28.17,-2.25 27.42,-2.25 ; 31.23,-2.25 ccw(c30.48,-3.95) 29.73,-2.25 28.98,-2.25 28.98,2.05 29.73,2.05 29.73,2.4 29.23,2.4 28.98,3.4 31.98,3.4 31.73,2.4 31.23,2.4 31.23,2.05 31.98,2.05 31.98,-2.25 31.23,-2.25 ; -7.21,-3.11 37.69,-3.11 37.69,3.11 32.89,3.11 32.89,4.36 -2.41,4.36 -2.41,3.11 -7.21,3.11 -7.21,-3.11
Top Assembly:
  lines w0.254: -2.8,3.5 -2.8,4.75 -0.8,4.75 ; -7.1,-3 37.58,-3 37.58,3 32.78,3 32.78,4.25 -2.3,4.25 -2.3,3 -7.1,3 -7.1,-3
  text "'.Designator'" at 11.193,2.71 h1
Top Courtyard:
  lines w0.254: -7.6,-3.5 38.08,-3.5 38.08,4.75 -7.6,4.75 -7.6,-3.5
Top Designator:
  text ".Designator" at 7.622,0.117 h1.52

## PhoenixContact_MCV_1,5_9-GF-3.81_1x09_P3.81mm_Vertical_ThreadedFlange_MountHole [mm]
pads (11):
  rrect14% 1.8x3.6 hole 1.2: 1(0,0)
  rrect100% 1.8x3.6 hole 1.2: 2(3.81,0) 3(7.62,0) 4(11.43,0) 5(15.24,0) 6(19.05,0) 7(22.86,0) 8(26.67,0) 9(30.48,0)
  round 2.4 hole 2.4: Un1(-4.5,0) Un2(34.98,0)
F.SilkS:
  circle w0.254: c34.98,0 r1.9
  circle w0.254: c-4.5,0 r1.9
  lines w0.254: -2.8,3.5 -2.8,4.75 -0.8,4.75 ; 0.75,-2.25 ccw(c0,-3.95) -0.75,-2.25 -1.5,-2.25 -1.5,2.05 -0.75,2.05 -0.75,2.4 -1.25,2.4 -1.5,3.4 1.5,3.4 1.25,2.4 0.75,2.4 0.75,2.05 1.5,2.05 1.5,-2.25 0.75,-2.25 ; 4.56,-2.25 ccw(c3.81,-3.95) 3.06,-2.25 2.31,-2.25 2.31,2.05 3.06,2.05 3.06,2.4 2.56,2.4 2.31,3.4 5.31,3.4 5.06,2.4 4.56,2.4 4.56,2.05 5.31,2.05 5.31,-2.25 4.56,-2.25 ; 8.37,-2.25 ccw(c7.62,-3.95) 6.87,-2.25 6.12,-2.25 6.12,2.05 6.87,2.05 6.87,2.4 6.37,2.4 6.12,3.4 9.12,3.4 8.87,2.4 8.37,2.4 8.37,2.05 9.12,2.05 9.12,-2.25 8.37,-2.25 ; 12.18,-2.25 ccw(c11.43,-3.95) 10.68,-2.25 9.93,-2.25 9.93,2.05 10.68,2.05 10.68,2.4 10.18,2.4 9.93,3.4 12.93,3.4 12.68,2.4 12.18,2.4 12.18,2.05 12.93,2.05 12.93,-2.25 12.18,-2.25 ; 15.99,-2.25 ccw(c15.24,-3.95) 14.49,-2.25 13.74,-2.25 13.74,2.05 14.49,2.05 14.49,2.4 13.99,2.4 13.74,3.4 16.74,3.4 16.49,2.4 15.99,2.4 15.99,2.05 16.74,2.05 16.74,-2.25 15.99,-2.25 ; 19.8,-2.25 ccw(c19.05,-3.95) 18.3,-2.25 17.55,-2.25 17.55,2.05 18.3,2.05 18.3,2.4 17.8,2.4 17.55,3.4 20.55,3.4 20.3,2.4 19.8,2.4 19.8,2.05 20.55,2.05 20.55,-2.25 19.8,-2.25 ; 23.61,-2.25 ccw(c22.86,-3.95) 22.11,-2.25 21.36,-2.25 21.36,2.05 22.11,2.05 22.11,2.4 21.61,2.4 21.36,3.4 24.36,3.4 24.11,2.4 23.61,2.4 23.61,2.05 24.36,2.05 24.36,-2.25 23.61,-2.25 ; 27.42,-2.25 ccw(c26.67,-3.95) 25.92,-2.25 25.17,-2.25 25.17,2.05 25.92,2.05 25.92,2.4 25.42,2.4 25.17,3.4 28.17,3.4 27.92,2.4 27.42,2.4 27.42,2.05 28.17,2.05 28.17,-2.25 27.42,-2.25 ; 31.23,-2.25 ccw(c30.48,-3.95) 29.73,-2.25 28.98,-2.25 28.98,2.05 29.73,2.05 29.73,2.4 29.23,2.4 28.98,3.4 31.98,3.4 31.73,2.4 31.23,2.4 31.23,2.05 31.98,2.05 31.98,-2.25 31.23,-2.25 ; -7.21,-3.11 37.69,-3.11 37.69,3.11 32.89,3.11 32.89,4.36 -2.41,4.36 -2.41,3.11 -7.21,3.11 -7.21,-3.11
B.SilkS:
  circle w0.254: c34.98,0 r2.21
  circle w0.254: c-4.5,0 r2.21
Top Assembly:
  lines w0.254: -2.8,3.5 -2.8,4.75 -0.8,4.75 ; -7.1,-3 37.58,-3 37.58,3 32.78,3 32.78,4.25 -2.3,4.25 -2.3,3 -7.1,3 -7.1,-3
  text "'.Designator'" at 11.193,2.71 h1
Bottom Assembly:
  circle w0.254: c34.98,0 r2.1
  circle w0.254: c-4.5,0 r2.1
Top Courtyard:
  lines w0.254: -7.6,-3.5 38.08,-3.5 38.08,4.75 -7.6,4.75 -7.6,-3.5
Bottom Courtyard:
  circle w0.254: c34.98,0 r2.6
  circle w0.254: c-4.5,0 r2.6
Top Designator:
  text ".Designator" at 7.622,0.117 h1.52

## PhoenixContact_MCV_1,5_10-G-3.5_1x10_P3.50mm_Vertical [mm]
pads (10):
  rrect14% 1.8x3.6 hole 1.2: 1(0,0)
  rrect100% 1.8x3.6 hole 1.2: 2(3.5,0) 3(7,0) 4(10.5,0) 5(14,0) 6(17.5,0) 7(21,0) 8(24.5,0) 9(28,0) 10(31.5,0)
F.SilkS:
  lines w0.254: -2.95,3.5 -2.95,4.75 -0.95,4.75 ; 0.75,-2.25 ccw(c0,-3.95) -0.75,-2.25 -1.5,-2.25 -1.5,2.05 -0.75,2.05 -0.75,2.4 -1.25,2.4 -1.5,3.4 1.5,3.4 1.25,2.4 0.75,2.4 0.75,2.05 1.5,2.05 1.5,-2.25 0.75,-2.25 ; 32.25,-2.25 ccw(c31.5,-3.95) 30.75,-2.25 30,-2.25 30,2.05 30.75,2.05 30.75,2.4 30.25,2.4 30,3.4 33,3.4 32.75,2.4 32.25,2.4 32.25,2.05 33,2.05 33,-2.25 32.25,-2.25 ; -2.56,-3.11 34.06,-3.11 34.06,4.36 -2.56,4.36 -2.56,-3.11 ; 2,-2.25 2.75,-2.25 cw(c3.5,-3.95) 4.25,-2.25 5,-2.25 5,2.05 4.25,2.05 4.25,2.4 4.75,2.4 5,3.4 2,3.4 2.25,2.4 2.75,2.4 2.75,2.05 2,2.05 2,-2.25 ; 5.5,-2.25 6.25,-2.25 cw(c7,-3.95) 7.75,-2.25 8.5,-2.25 8.5,2.05 7.75,2.05 7.75,2.4 8.25,2.4 8.5,3.4 5.5,3.4 5.75,2.4 6.25,2.4 6.25,2.05 5.5,2.05 5.5,-2.25 ; 9,-2.25 9.75,-2.25 cw(c10.5,-3.95) 11.25,-2.25 12,-2.25 12,2.05 11.25,2.05 11.25,2.4 11.75,2.4 12,3.4 9,3.4 9.25,2.4 9.75,2.4 9.75,2.05 9,2.05 9,-2.25 ; 12.5,-2.25 13.25,-2.25 cw(c14,-3.95) 14.75,-2.25 15.5,-2.25 15.5,2.05 14.75,2.05 14.75,2.4 15.25,2.4 15.5,3.4 12.5,3.4 12.75,2.4 13.25,2.4 13.25,2.05 12.5,2.05 12.5,-2.25 ; 16,-2.25 16.75,-2.25 cw(c17.5,-3.95) 18.25,-2.25 19,-2.25 19,2.05 18.25,2.05 18.25,2.4 18.75,2.4 19,3.4 16,3.4 16.25,2.4 16.75,2.4 16.75,2.05 16,2.05 16,-2.25 ; 19.5,-2.25 20.25,-2.25 cw(c21,-3.95) 21.75,-2.25 22.5,-2.25 22.5,2.05 21.75,2.05 21.75,2.4 22.25,2.4 22.5,3.4 19.5,3.4 19.75,2.4 20.25,2.4 20.25,2.05 19.5,2.05 19.5,-2.25 ; 23,-2.25 23.75,-2.25 cw(c24.5,-3.95) 25.25,-2.25 26,-2.25 26,2.05 25.25,2.05 25.25,2.4 25.75,2.4 26,3.4 23,3.4 23.25,2.4 23.75,2.4 23.75,2.05 23,2.05 23,-2.25 ; 26.5,-2.25 27.25,-2.25 cw(c28,-3.95) 28.75,-2.25 29.5,-2.25 29.5,2.05 28.75,2.05 28.75,2.4 29.25,2.4 29.5,3.4 26.5,3.4 26.75,2.4 27.25,2.4 27.25,2.05 26.5,2.05 26.5,-2.25
Top Assembly:
  lines w0.254: -2.95,3.5 -2.95,4.75 -0.95,4.75 ; -2.45,-3 33.95,-3 33.95,4.25 -2.45,4.25 -2.45,-3
  text "'.Designator'" at 11.703,2.71 h1
Top Courtyard:
  lines w0.254: -2.95,-3.5 34.45,-3.5 34.45,4.75 -2.95,4.75 -2.95,-3.5
Top Designator:
  text ".Designator" at 8.132,0.117 h1.52

## PhoenixContact_MCV_1,5_10-G-3.81_1x10_P3.81mm_Vertical [mm]
pads (10):
  rrect14% 1.8x3.6 hole 1.2: 1(0,0)
  rrect100% 1.8x3.6 hole 1.2: 2(3.81,0) 3(7.62,0) 4(11.43,0) 5(15.24,0) 6(19.05,0) 7(22.86,0) 8(26.67,0) 9(30.48,0) 10(34.29,0)
F.SilkS:
  lines w0.254: -3.1,3.5 -3.1,4.75 -1.1,4.75 ; 0.75,-2.25 ccw(c0,-3.95) -0.75,-2.25 -1.5,-2.25 -1.5,2.05 -0.75,2.05 -0.75,2.4 -1.25,2.4 -1.5,3.4 1.5,3.4 1.25,2.4 0.75,2.4 0.75,2.05 1.5,2.05 1.5,-2.25 0.75,-2.25 ; 4.56,-2.25 ccw(c3.81,-3.95) 3.06,-2.25 2.31,-2.25 2.31,2.05 3.06,2.05 3.06,2.4 2.56,2.4 2.31,3.4 5.31,3.4 5.06,2.4 4.56,2.4 4.56,2.05 5.31,2.05 5.31,-2.25 4.56,-2.25 ; 8.37,-2.25 ccw(c7.62,-3.95) 6.87,-2.25 6.12,-2.25 6.12,2.05 6.87,2.05 6.87,2.4 6.37,2.4 6.12,3.4 9.12,3.4 8.87,2.4 8.37,2.4 8.37,2.05 9.12,2.05 9.12,-2.25 8.37,-2.25 ; 12.18,-2.25 ccw(c11.43,-3.95) 10.68,-2.25 9.93,-2.25 9.93,2.05 10.68,2.05 10.68,2.4 10.18,2.4 9.93,3.4 12.93,3.4 12.68,2.4 12.18,2.4 12.18,2.05 12.93,2.05 12.93,-2.25 12.18,-2.25 ; 15.99,-2.25 ccw(c15.24,-3.95) 14.49,-2.25 13.74,-2.25 13.74,2.05 14.49,2.05 14.49,2.4 13.99,2.4 13.74,3.4 16.74,3.4 16.49,2.4 15.99,2.4 15.99,2.05 16.74,2.05 16.74,-2.25 15.99,-2.25 ; 19.8,-2.25 ccw(c19.05,-3.95) 18.3,-2.25 17.55,-2.25 17.55,2.05 18.3,2.05 18.3,2.4 17.8,2.4 17.55,3.4 20.55,3.4 20.3,2.4 19.8,2.4 19.8,2.05 20.55,2.05 20.55,-2.25 19.8,-2.25 ; 23.61,-2.25 ccw(c22.86,-3.95) 22.11,-2.25 21.36,-2.25 21.36,2.05 22.11,2.05 22.11,2.4 21.61,2.4 21.36,3.4 24.36,3.4 24.11,2.4 23.61,2.4 23.61,2.05 24.36,2.05 24.36,-2.25 23.61,-2.25 ; 27.42,-2.25 ccw(c26.67,-3.95) 25.92,-2.25 25.17,-2.25 25.17,2.05 25.92,2.05 25.92,2.4 25.42,2.4 25.17,3.4 28.17,3.4 27.92,2.4 27.42,2.4 27.42,2.05 28.17,2.05 28.17,-2.25 27.42,-2.25 ; 31.23,-2.25 ccw(c30.48,-3.95) 29.73,-2.25 28.98,-2.25 28.98,2.05 29.73,2.05 29.73,2.4 29.23,2.4 28.98,3.4 31.98,3.4 31.73,2.4 31.23,2.4 31.23,2.05 31.98,2.05 31.98,-2.25 31.23,-2.25 ; 35.04,-2.25 ccw(c34.29,-3.95) 33.54,-2.25 32.79,-2.25 32.79,2.05 33.54,2.05 33.54,2.4 33.04,2.4 32.79,3.4 35.79,3.4 35.54,2.4 35.04,2.4 35.04,2.05 35.79,2.05 35.79,-2.25 35.04,-2.25 ; -2.71,-3.11 37,-3.11 37,4.36 -2.71,4.36 -2.71,-3.11
Top Assembly:
  lines w0.254: -3.1,3.5 -3.1,4.75 -1.1,4.75 ; -2.6,-3 36.89,-3 36.89,4.25 -2.6,4.25 -2.6,-3
  text "'.Designator'" at 13.093,2.71 h1
Top Courtyard:
  lines w0.254: -3.1,-3.5 37.39,-3.5 37.39,4.75 -3.1,4.75 -3.1,-3.5
Top Designator:
  text ".Designator" at 9.527,0.117 h1.52

## PhoenixContact_MCV_1,5_10-GF-3.5_1x10_P3.50mm_Vertical_ThreadedFlange [mm]
pads (10):
  rrect14% 1.8x3.6 hole 1.2: 1(0,0)
  rrect100% 1.8x3.6 hole 1.2: 2(3.5,0) 3(7,0) 4(10.5,0) 5(14,0) 6(17.5,0) 7(21,0) 8(24.5,0) 9(28,0) 10(31.5,0)
F.SilkS:
  drawing of 154 lines, arcs and shapes, not listed
Top Assembly:
  lines w0.254: -2.6,3.5 -2.6,4.75 -0.6,4.75 ; -6.9,-3 38.4,-3 38.4,3 33.6,3 33.6,4.25 -2.1,4.25 -2.1,3 -6.9,3 -6.9,-3
  text "'.Designator'" at 11.703,2.71 h1
Top Courtyard:
  lines w0.254: -7.4,-3.5 38.9,-3.5 38.9,4.75 -7.4,4.75 -7.4,-3.5
Top Designator:
  text ".Designator" at 8.132,0.117 h1.52

## PhoenixContact_MCV_1,5_10-GF-3.5_1x10_P3.50mm_Vertical_ThreadedFlange_MountHole [mm]
pads (12):
  rrect14% 1.8x3.6 hole 1.2: 1(0,0)
  rrect100% 1.8x3.6 hole 1.2: 2(3.5,0) 3(7,0) 4(10.5,0) 5(14,0) 6(17.5,0) 7(21,0) 8(24.5,0) 9(28,0) 10(31.5,0)
  round 2.4 hole 2.4: Un1(-4.3,0) Un2(35.8,0)
F.SilkS:
  drawing of 152 lines, arcs and shapes, not listed
B.SilkS:
  circle w0.254: c35.8,0 r2.21
  circle w0.254: c-4.3,0 r2.21
Top Assembly:
  lines w0.254: -2.6,3.5 -2.6,4.75 -0.6,4.75 ; -6.9,-3 38.4,-3 38.4,3 33.6,3 33.6,4.25 -2.1,4.25 -2.1,3 -6.9,3 -6.9,-3
  text "'.Designator'" at 11.703,2.71 h1
Bottom Assembly:
  circle w0.254: c35.8,0 r2.1
  circle w0.254: c-4.3,0 r2.1
Top Courtyard:
  lines w0.254: -7.4,-3.5 38.9,-3.5 38.9,4.75 -7.4,4.75 -7.4,-3.5
Bottom Courtyard:
  circle w0.254: c35.8,0 r2.6
  circle w0.254: c-4.3,0 r2.6
Top Designator:
  text ".Designator" at 8.132,0.117 h1.52

## PhoenixContact_MCV_1,5_10-GF-3.81_1x10_P3.81mm_Vertical_ThreadedFlange [mm]
pads (10):
  rrect14% 1.8x3.6 hole 1.2: 1(0,0)
  rrect100% 1.8x3.6 hole 1.2: 2(3.81,0) 3(7.62,0) 4(11.43,0) 5(15.24,0) 6(19.05,0) 7(22.86,0) 8(26.67,0) 9(30.48,0) 10(34.29,0)
F.SilkS:
  drawing of 154 lines, arcs and shapes, not listed
Top Assembly:
  lines w0.254: -2.8,3.5 -2.8,4.75 -0.8,4.75 ; -7.1,-3 41.39,-3 41.39,3 36.59,3 36.59,4.25 -2.3,4.25 -2.3,3 -7.1,3 -7.1,-3
  text "'.Designator'" at 13.093,2.71 h1
Top Courtyard:
  lines w0.254: -7.6,-3.5 41.89,-3.5 41.89,4.75 -7.6,4.75 -7.6,-3.5
Top Designator:
  text ".Designator" at 9.527,0.117 h1.52

## PhoenixContact_MCV_1,5_10-GF-3.81_1x10_P3.81mm_Vertical_ThreadedFlange_MountHole [mm]
pads (12):
  rrect14% 1.8x3.6 hole 1.2: 1(0,0)
  rrect100% 1.8x3.6 hole 1.2: 2(3.81,0) 3(7.62,0) 4(11.43,0) 5(15.24,0) 6(19.05,0) 7(22.86,0) 8(26.67,0) 9(30.48,0) 10(34.29,0)
  round 2.4 hole 2.4: Un1(-4.5,0) Un2(38.79,0)
F.SilkS:
  drawing of 152 lines, arcs and shapes, not listed
B.SilkS:
  circle w0.254: c38.79,0 r2.21
  circle w0.254: c-4.5,0 r2.21
Top Assembly:
  lines w0.254: -2.8,3.5 -2.8,4.75 -0.8,4.75 ; -7.1,-3 41.39,-3 41.39,3 36.59,3 36.59,4.25 -2.3,4.25 -2.3,3 -7.1,3 -7.1,-3
  text "'.Designator'" at 13.093,2.71 h1
Bottom Assembly:
  circle w0.254: c38.79,0 r2.1
  circle w0.254: c-4.5,0 r2.1
Top Courtyard:
  lines w0.254: -7.6,-3.5 41.89,-3.5 41.89,4.75 -7.6,4.75 -7.6,-3.5
Bottom Courtyard:
  circle w0.254: c38.79,0 r2.6
  circle w0.254: c-4.5,0 r2.6
Top Designator:
  text ".Designator" at 9.527,0.117 h1.52